# EAGLE library part ADM3252EABCZ (library IC)
DGTL ISO 2.5KV 4CH RS232 44BGA Manufacturer's datasheet <https://www.analog.com/media/en/technical-documentation/data-sheets/ADM3252E.pdf>
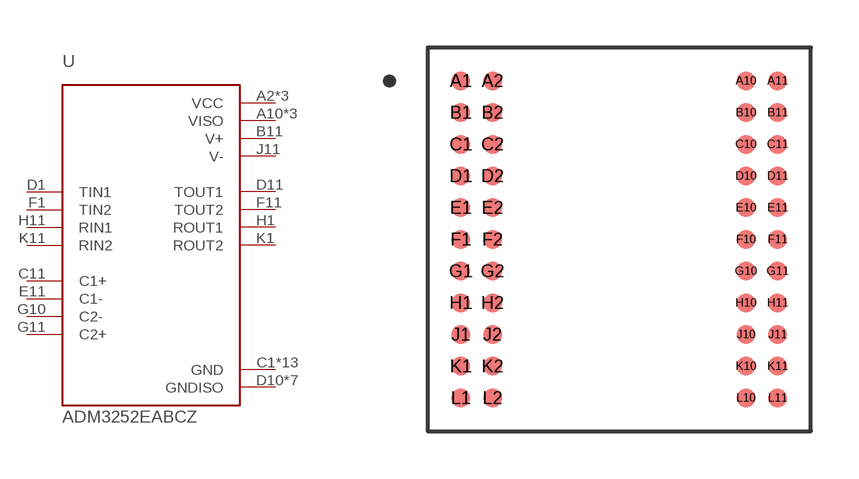
[diagram p20: symbol with the pads of 44-BGA; footprint 44-BGA]

Designator prefix U

## ADM3252EABCZ (CREATED_BY: PCBLayout.com; DIGIKEY_PN: ADM3252EABCZ-ND; MANUFACTURER: Analog Devices Inc.; MPN: ADM3252EABCZ; PACKAGE: 44-BGA)  [44-BGA]
A2  VCC  pwr
A10  VISO  pwr
B1  VCC  pwr
B2  VCC  pwr
B10  VISO  pwr
B11  V+  pwr
C1  GND  pwr
C2  GND  pwr
C10  VISO  pwr
C11  C1+  pas
D1  TIN1  in
D2  GND  pwr
D10  GNDISO  pwr
D11  TOUT1  out
E1  GND  pwr
E2  GND  pwr
E10  GNDISO  pwr
E11  C1-  pas
F1  TIN2  in
F2  GND  pwr
F10  GNDISO  pwr
F11  TOUT2  out
G1  GND  pwr
G2  GND  pwr
G10  C2-  pas
G11  C2+  pas
H1  ROUT1  out
H2  GND  pwr
H10  GNDISO  pwr
H11  RIN1  in
J1  GND  pwr
J2  GND  pwr
J10  GNDISO  pwr
J11  V-  pwr
K1  ROUT2  out
K2  GND  pwr
K10  GNDISO  pwr
K11  RIN2  in
L2  GND  pwr
L10  GNDISO  pwr

## Footprint 44-BGA (pad centres in mm)
smd 0.6 x 0.6: A1 -5,5; A2 -4,5; A10 4,5; A11 5,5; B1 -5,4; B2 -4,4; B10 4,4; B11 5,4; C1 -5,3; C2 -4,3; C10 4,3; C11 5,3; D1 -5,2; D2 -4,2; D10 4,2; D11 5,2; E1 -5,1; E2 -4,1; E10 4,1; E11 5,1; F1 -5,0; F2 -4,0; F10 4,0; F11 5,0; G1 -5,-1; G2 -4,-1; G10 4,-1; G11 5,-1; H1 -5,-2; H2 -4,-2; H10 4,-2; H11 5,-2; J1 -5,-3; J2 -4,-3; J10 4,-3; J11 5,-3; K1 -5,-4; K2 -4,-4; K10 4,-4; K11 5,-4; L1 -5,-5; L2 -4,-5; L10 4,-5; L11 5,-5